# Altium footprint library PCB - CONNECTOR - AMPHENOL - AMPHENOL F32R-1A7H1-11040.PcbLib: 1 footprints
Each footprint in its own frame and in the unit in brackets; x right, y up, seen from the top. Pads: shape width x height; smd on the part's side, far side on the other; paste and mask are expansions set on the pad; w line width, h text height; cw(c..) or ccw(c..) is an arc to the next point about the centre after c.
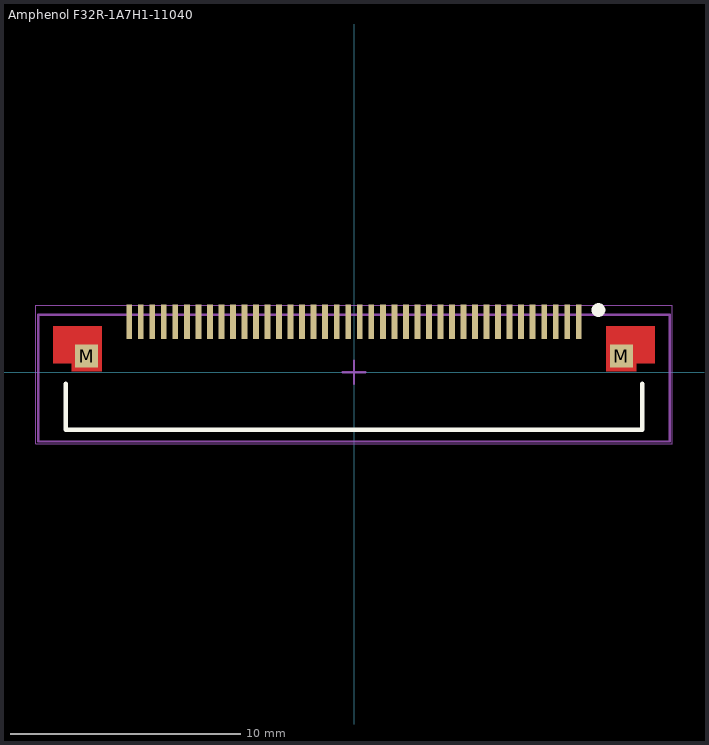
[diagram p0: the footprint, top view; thin cyan lines are the x and y axes]

## Amphenol F32R-1A7H1-11040 [mm]
height 2
pads (42):
  rect 0.255x1.5 smd mask+0.07: 1(9.75,2.2) 2(9.25,2.2) 3(8.75,2.2) 4(8.25,2.2) 5(7.75,2.2) 6(7.25,2.2) 7(6.75,2.2) 8(6.25,2.2) 9(5.75,2.2) 10(5.25,2.2) 11(4.75,2.2) 12(4.25,2.2) 13(3.75,2.2) 14(3.25,2.2) 15(2.75,2.2) 16(2.25,2.2) 17(1.75,2.2) 18(1.25,2.2) 19(0.75,2.2) 20(0.25,2.2) 21(-0.25,2.2) 22(-0.75,2.2) 23(-1.25,2.2) 24(-1.75,2.2) 25(-2.25,2.2) 26(-2.75,2.2) 27(-3.25,2.2) 28(-3.75,2.2) 29(-4.25,2.2) 30(-4.75,2.2) 31(-5.25,2.2) 32(-5.75,2.2) 33(-6.25,2.2) 34(-6.75,2.2) 35(-7.25,2.2) 36(-7.75,2.2) 37(-8.25,2.2) 38(-8.75,2.2) 39(-9.25,2.2) 40(-9.75,2.2)
  rect 1x1 smd mask+0: M(-11.6,0.7) M(11.6,0.7)
Top Layer:
  region: 10.95,2 13.05,2 13.05,0.4 12.25,0.4 12.25,0.05 10.95,0.05
  region: -10.95,2 -13.05,2 -13.05,0.4 -12.25,0.4 -12.25,0.05 -10.95,0.05
  region: 11.2,2.9
  region: -11.1,2.806
Top Overlay:
  circle w0.3: c10.6,2.7 r0.15
  lines w0.2: -12.5,-0.5 -12.5,-2.5 12.5,-2.5 12.5,-0.5
Top Paste:
  region: 10.95,2 13.05,2 13.05,0.4 12.25,0.4 12.25,0.05 10.95,0.05
  region: -10.95,2 -13.05,2 -13.05,0.4 -12.25,0.4 -12.25,0.05 -10.95,0.05
Top Solder:
  region: 10.85,2.094 10.85,-0.05 12.336,-0.05 12.336,0.314 13.15,0.314 13.15,2.094
  region: -10.85,2.094 -10.85,-0.05 -12.336,-0.05 -12.336,0.314 -13.15,0.314 -13.15,2.094
Mechanical 13:
  lines w0.1: -13.7,-3 13.7,-3 13.7,2.5 -13.7,2.5 -13.7,-3
Mechanical 15 (Mech15):
  lines w0.05: -13.8,-3.1 -13.8,2.9 13.8,2.9 13.8,-3.1 -13.8,-3.1
  lines w0.1: -0.5,0 0,0 ; 0,-0.5 0,0 ; 0,0.5 0,0 ; 0.5,0 0,0
3D body "Ampenol - f32r_40pin_asm.stp": height 2.09, standoff -0.01, extent -13.653,-3.025 13.647,2.475